# EAGLE library part LT3498 (library PowerProducts)
LT-Spice library generated with : ltspice.ulp from: E:/Programme/LTC/LTspiceIV/lib/sym/PowerProducts/LT3500*.asy at 05.10.2012 12:14:28
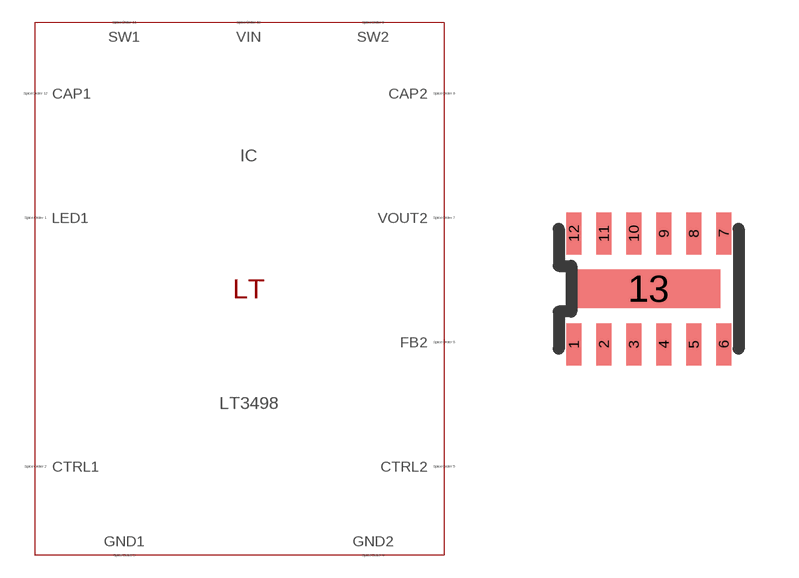
[diagram p59: symbol with the pads of DFN12(DDB); footprint DFN12(DDB)]

Designator prefix IC

## LT3498 (SPICEMODEL: LT3498.sub; SPICEPREFIX: X; VALUE2: LT3498)  [DFN12(DDB)]
1  LED1  pas
2  CTRL1  pas
3  GND1  pas
4  GND2  pas
5  CTRL2  pas
6  FB2  pas
7  VOUT2  pas
8  CAP2  pas
9  SW2  pas
10  VIN  pas
11  SW1  pas
12  CAP1  pas
13  GND1  pas

## Footprint DFN12(DDB) (pad centres in mm)
Package generated from: DFN12(DDB).asc (!PADS-POWERPCB-V5.0-BASIC! DESIGN DATABASE ASCII FILE 1.0) with :import-pads-powerpcb-v5.ulp Version 1.0.1 at 04.10.2012 14:11:16
smd 0.375 x 1.05: 1 -1.875,-1.387; 2 -1.125,-1.387; 3 -0.375,-1.387; 4 0.375,-1.387; 5 1.125,-1.387; 6 1.875,-1.387; 7 1.875,1.387; 8 1.125,1.387; 9 0.375,1.387; 10 -0.375,1.387; 11 -1.125,1.387; 12 -1.875,1.387
smd 3.585 x 0.96: 13 0,0